# EAGLE library part RASPBERRY_PI_PICO (library RASPBERRY_PI_PICO)
Check availability <https://pricing.snapeda.com/parts/RASPBERRY%20PI%20PICO/Raspberry%20Pi/view-part?ref=eda>
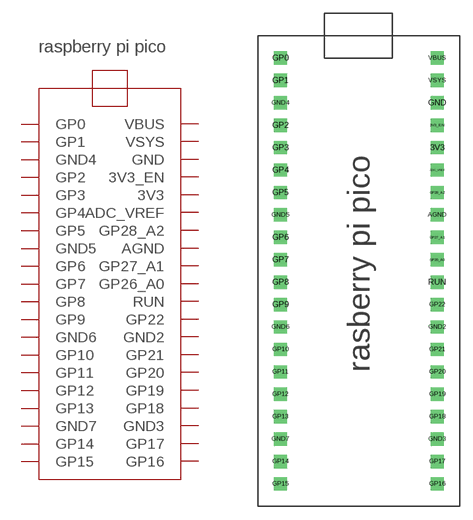
[diagram p0: symbol with the pads of RASPBERRY_PI_PICO; footprint RASPBERRY_PI_PICO]

Designator prefix U

## RASPBERRY_PI_PICO (Availability: Not in stock; Check_prices: https://www.snapeda.com/parts/RASPBERRY%20PI%20PICO/Raspberry+Pi/view-part/?ref=eda; Description: Raspberry Pi Board, Arm Cortex-M0+; Core Architecture:Arm; Core Sub-Architecture:Cortex-M0+; Kit Contents:Raspberry Pi Pico Board; No. Of Bits:32Bit; Silicon Core Number:Rp2040; Silicon Manufacturer:Raspberry Pi |Raspberry-Pi RASPBERRY PI PICO; MF: Raspberry Pi; MP: RASPBERRY PI PICO; Package: None; Price: None; SnapEDA_Link: https://www.snapeda.com/parts/RASPBERRY%20PI%20PICO/Raspberry+Pi/view-part/?ref=snap)  [RASPBERRY_PI_PICO]
3V3  3V3
3V3_EN  3V3_EN
ADC_VREF  ADC_VREF
AGND  AGND
GND  GND
GND2  GND2
GND3  GND3
GND4  GND4
GND5  GND5
GND6  GND6
GND7  GND7
GP0  GP0
GP1  GP1
GP2  GP2
GP3  GP3
GP4  GP4
GP5  GP5
GP6  GP6
GP7  GP7
GP8  GP8
GP9  GP9
GP10  GP10
GP11  GP11
GP12  GP12
GP13  GP13
GP14  GP14
GP15  GP15
GP16  GP16
GP17  GP17
GP18  GP18
GP19  GP19
GP20  GP20
GP21  GP21
GP22  GP22
GP26_A0  GP26_A0
GP27_A1  GP27_A1
GP28_A2  GP28_A2
RUN  RUN
VBUS  VBUS
VSYS  VSYS

## Footprint RASPBERRY_PI_PICO (pad centres in mm)
drill 1 square: 3V3 8.89,12.7; 3V3_EN 8.89,15.24; ADC_VREF 8.89,10.16; AGND 8.89,5.08; GND 8.89,17.78; GND2 8.89,-7.62; GND3 8.89,-20.32; GND4 -8.89,17.78; GND5 -8.89,5.08; GND6 -8.89,-7.62; GND7 -8.89,-20.32; GP0 -8.89,22.86; GP1 -8.89,20.32; GP2 -8.89,15.24; GP3 -8.89,12.7; GP4 -8.89,10.16; GP5 -8.89,7.62; GP6 -8.89,2.54; GP7 -8.89,0; GP8 -8.89,-2.54; GP9 -8.89,-5.08; GP10 -8.89,-10.16; GP11 -8.89,-12.7; GP12 -8.89,-15.24; GP13 -8.89,-17.78; GP14 -8.89,-22.86; GP15 -8.89,-25.4; GP16 8.89,-25.4; GP17 8.89,-22.86; GP18 8.89,-17.78; GP19 8.89,-15.24; GP20 8.89,-12.7; GP21 8.89,-10.16; GP22 8.89,-5.08; GP26_A0 8.89,0; GP27_A1 8.89,2.54; GP28_A2 8.89,7.62; RUN 8.89,-2.54; VBUS 8.89,22.86; VSYS 8.89,20.32